# Altium footprint library 2202316.PcbLib: 1 footprints
Each footprint in its own frame and in the unit in brackets; x right, y up, seen from the top. Pads: shape width x height; smd on the part's side, far side on the other; paste and mask are expansions set on the pad; w line width, h text height; cw(c..) or ccw(c..) is an arc to the next point about the centre after c.
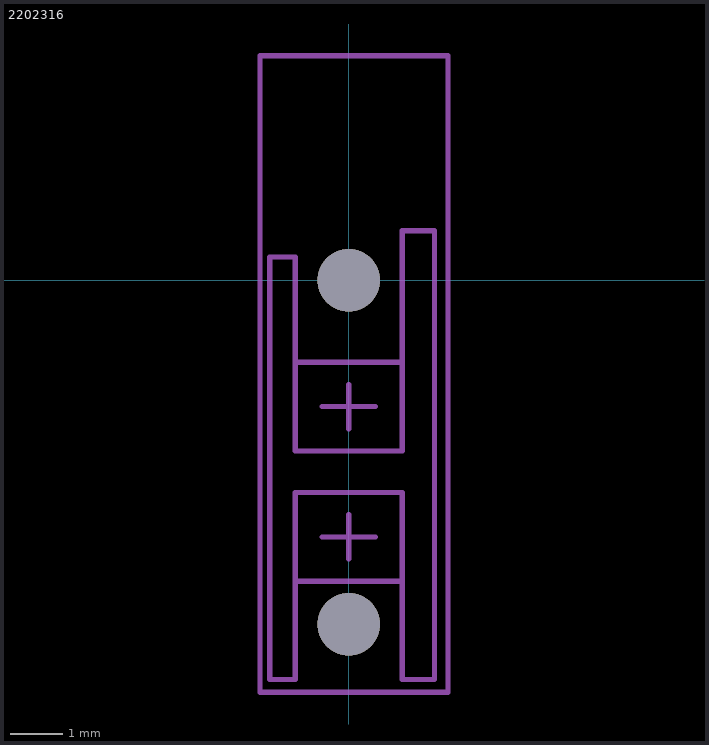
[diagram p0: the footprint, top view; thin cyan lines are the x and y axes]

## 2202316 [mm]
via 0,-6.6 diameter 1.2 hole 1.2
via 0,0 diameter 1.2 hole 1.2
Top Assembly:
  lines w0.1: -1.025,-5.774 1.025,-5.774 ; -0.512,-4.924 0.512,-4.924 ; -0.513,-2.424 0.512,-2.424 ; 0,-5.349 0,-4.499 ; 0,-2.849 0,-1.999 ; -1.025,-1.574 -1.025,0.446 -1.515,0.446 -1.515,-1.574 -1.515,-6.127 -1.515,-7.654 -1.025,-7.654 -1.025,-6.127 -1.025,-4.074 1.025,-4.074 1.025,-7.654 1.643,-7.654 1.643,0.946 1.025,0.946 1.025,-3.274 -1.025,-3.274 -1.025,-1.574 ; -1.025,-1.574 1.025,-1.574 ; 1.025,-1.574 ccw(c1.025,-1.574) 1.025,-1.574
Top Courtyard:
  lines w0.1: -1.7,-7.9 1.9,-7.9 1.9,4.3 -1.7,4.3 -1.7,-7.9
3D body "pxc_2202316_01_HS-LC-H-D2-R2XC1-2-54_APP3D_HS-LC-H-D2-R2XC1-2-54 v1.step": height 6.06, standoff -2.1, extent -1.515,-7.654 1.67,4.2